# Altium schematic symbol library TSW-116-07-G-D.SchLib: 1 symbol
Pins are listed as number, name and electrical type; pins without a type are passive.

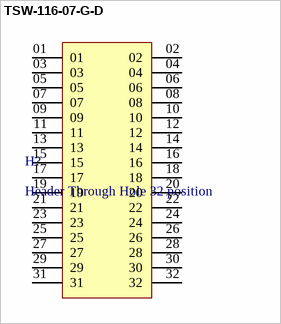
[diagram p0: symbol TSW-116-07-G-D]

## TSW-116-07-G-D
designator H?, comment Header Through Hole 32 position
Connector Header Through Hole 32 position 0.100" (2.54mm); Manufacturer: Samtec; Manufacturer Part Number: TSW-116-07-G-D; Manufacturer Lifecycle Status: PRODUCTION; Connector Type: Male Pin; Gender: Male; Max Current Rating: 7.6A; Max Voltage Rating (AC): 550V; Number of Contacts: 32; Supplier: DigiKey; Supplier Part Number: 612-TSW-116-07-G-D-ND; RoHS: Compliant; Category: Power Connectors; Stock: 463; Pricing: 1=3.91, 10=3.318, 100=2.82, 500=2.51726, 1000=2.3972 (USD); Color: Black; Contact Material: Bronze; Contact Mating Length: 5.842mm; Contact Plating: Gold; Depth: 5.08mm; Housing Color: Black; Housing Material: Polyester; Lead Free: Lead Free; Lead Pitch: 2.54mm; Length: 40.64mm; Lifecycle Status: Production; Max Operating Temperature: 125°C; Min Operating Temperature: -55°C; Mounting Technology: Through Hole; Number of Positions: 32; Number of Rows: 2; Orientation: Straight; Pitch: 2.54mm; Radiation Hardening: No; REACH SVHC: Unaffected; Row Spacing: 2.54mm; Termination: Solder; Width: 5.08mm; ComponentLink1URL: https://datasheet.octopart.com:443/TSW-116-07-G-D-Samtec-datasheet-97325576.pdf?src-supplier=Sager+Electronics; ComponentLink1Description: https://datasheet.octopart.com:443/TSW-116-07-G-D-Samtec-datasheet-97325576.pdf?src-supplier=Sager+Electronics; ComponentLink2URL: https://datasheet.octopart.com:443/TSW-116-07-G-D-Samtec-datasheet-151455181.pdf?src-supplier=Sager+Electronics; ComponentLink2Description: https://datasheet.octopart.com:443/TSW-116-07-G-D-Samtec-datasheet-151455181.pdf?src-supplier=Sager+Electronics; ComponentLink3URL: https://sigma.octopart.com:443/97325577/technical_drawing/Samtec-TSW-116-07-G-D.pdf?src-supplier=Samtec; ComponentLink3Description: https://sigma.octopart.com:443/97325577/technical_drawing/Samtec-TSW-116-07-G-D.pdf?src-supplier=Samtec; ComponentLink4URL: https://datasheet.octopart.com:443/TSW-116-07-G-D-Samtec-datasheet-136646178.pdf?src-supplier=Master+Electronics; ComponentLink4Description: https://datasheet.octopart.com:443/TSW-116-07-G-D-Samtec-datasheet-136646178.pdf?src-supplier=Master+Electronics; ComponentLink5URL: https://datasheet.octopart.com:443/TSW-116-07-G-D-Samtec-datasheet-118235302.pdf?src-supplier=Electro+Sonic; ComponentLink5Description: https://datasheet.octopart.com:443/TSW-116-07-G-D-Samtec-datasheet-118235302.pdf?src-supplier=Electro+Sonic; ComponentLink6URL: https://datasheet.octopart.com:443/TSW-116-07-G-D-Samtec-datasheet-182948906.pdf?src-supplier=JRH+Electronics; ComponentLink6Description: https://datasheet.octopart.com:443/TSW-116-07-G-D-Samtec-datasheet-182948906.pdf?src-supplier=JRH+Electronics; ComponentLink7URL: https://datasheet.octopart.com:443/TSW-116-07-G-D-Samtec-datasheet-160657603.pdf?src-supplier=Toby+Electronics; ComponentLink7Description: https://datasheet.octopart.com:443/TSW-116-07-G-D-Samtec-datasheet-160657603.pdf?src-supplier=Toby+Electronics; ComponentLink8URL: https://datasheet.octopart.com:443/TSW-116-07-G-D-Samtec-datasheet-116539033.pdf?src-supplier=Toby+Electronics; ComponentLink8Description: https://datasheet.octopart.com:443/TSW-116-07-G-D-Samtec-datasheet-116539033.pdf?src-supplier=Toby+Electronics; ComponentLink9URL: https://datasheet.octopart.com:443/TSW-116-07-G-D-Samtec-datasheet-116536310.pdf?src-supplier=Toby+Electronics; ComponentLink9Description: https://datasheet.octopart.com:443/TSW-116-07-G-D-Samtec-datasheet-116536310.pdf?src-supplier=Toby+Electronics; ComponentLink10URL: https://datasheet.octopart.com:443/TSW-116-07-G-D-.-Samtec-datasheet-138830914.pdf?src-supplier=Newark; ComponentLink10Description: https://datasheet.octopart.com:443/TSW-116-07-G-D-.-Samtec-datasheet-138830914.pdf?src-supplier=Newark; ComponentLink11URL: https://datasheet.octopart.com:443/TSW-116-07-G-D-Samtec-datasheet-112220187.pdf?src-supplier=Newark; ComponentLink11Description: https://datasheet.octopart.com:443/TSW-116-07-G-D-Samtec-datasheet-112220187.pdf?src-supplier=Newark; ComponentLink12URL: https://datasheet.octopart.com:443/TSW-116-07-G-D-Samtec-datasheet-11047283.pdf?src-supplier=Newark; ComponentLink12Description: https://datasheet.octopart.com:443/TSW-116-07-G-D-Samtec-datasheet-11047283.pdf?src-supplier=Newark; ComponentLink13URL: https://datasheet.octopart.com/TSW-116-07-G-D-Samtec-datasheet-86818365.pdf; ComponentLink13Description: https://datasheet.octopart.com/TSW-116-07-G-D-Samtec-datasheet-86818365.pdf; ComponentLink14URL: https://datasheet.octopart.com:443/TSW-116-07-G-D-Samtec-datasheet-11542832.pdf?src-supplier=Arrow+Electronics; ComponentLink14Description: https://datasheet.octopart.com:443/TSW-116-07-G-D-Samtec-datasheet-11542832.pdf?src-supplier=Arrow+Electronics
footprint SAMTEC_TSW-116-07-G-D
footprint SAMTEC_TSW-116-07-G-D
pins: 01, 02, 03, 04, 05, 06, 07, 08, 09, 10, 11, 12, 13, 14, 15, 16, 17, 18, 19, 20, 21, 22, 23, 24, 25, 26, 27, 28, 29, 30, 31, 32